# Altium footprint library 247-616_Pi-CAN.PcbLib: 15 footprints
Each footprint in its own frame and in the unit in brackets; x right, y up, seen from the top. Pads: shape width x height; smd on the part's side, far side on the other; paste and mask are expansions set on the pad; w line width, h text height; cw(c..) or ccw(c..) is an arc to the next point about the centre after c.
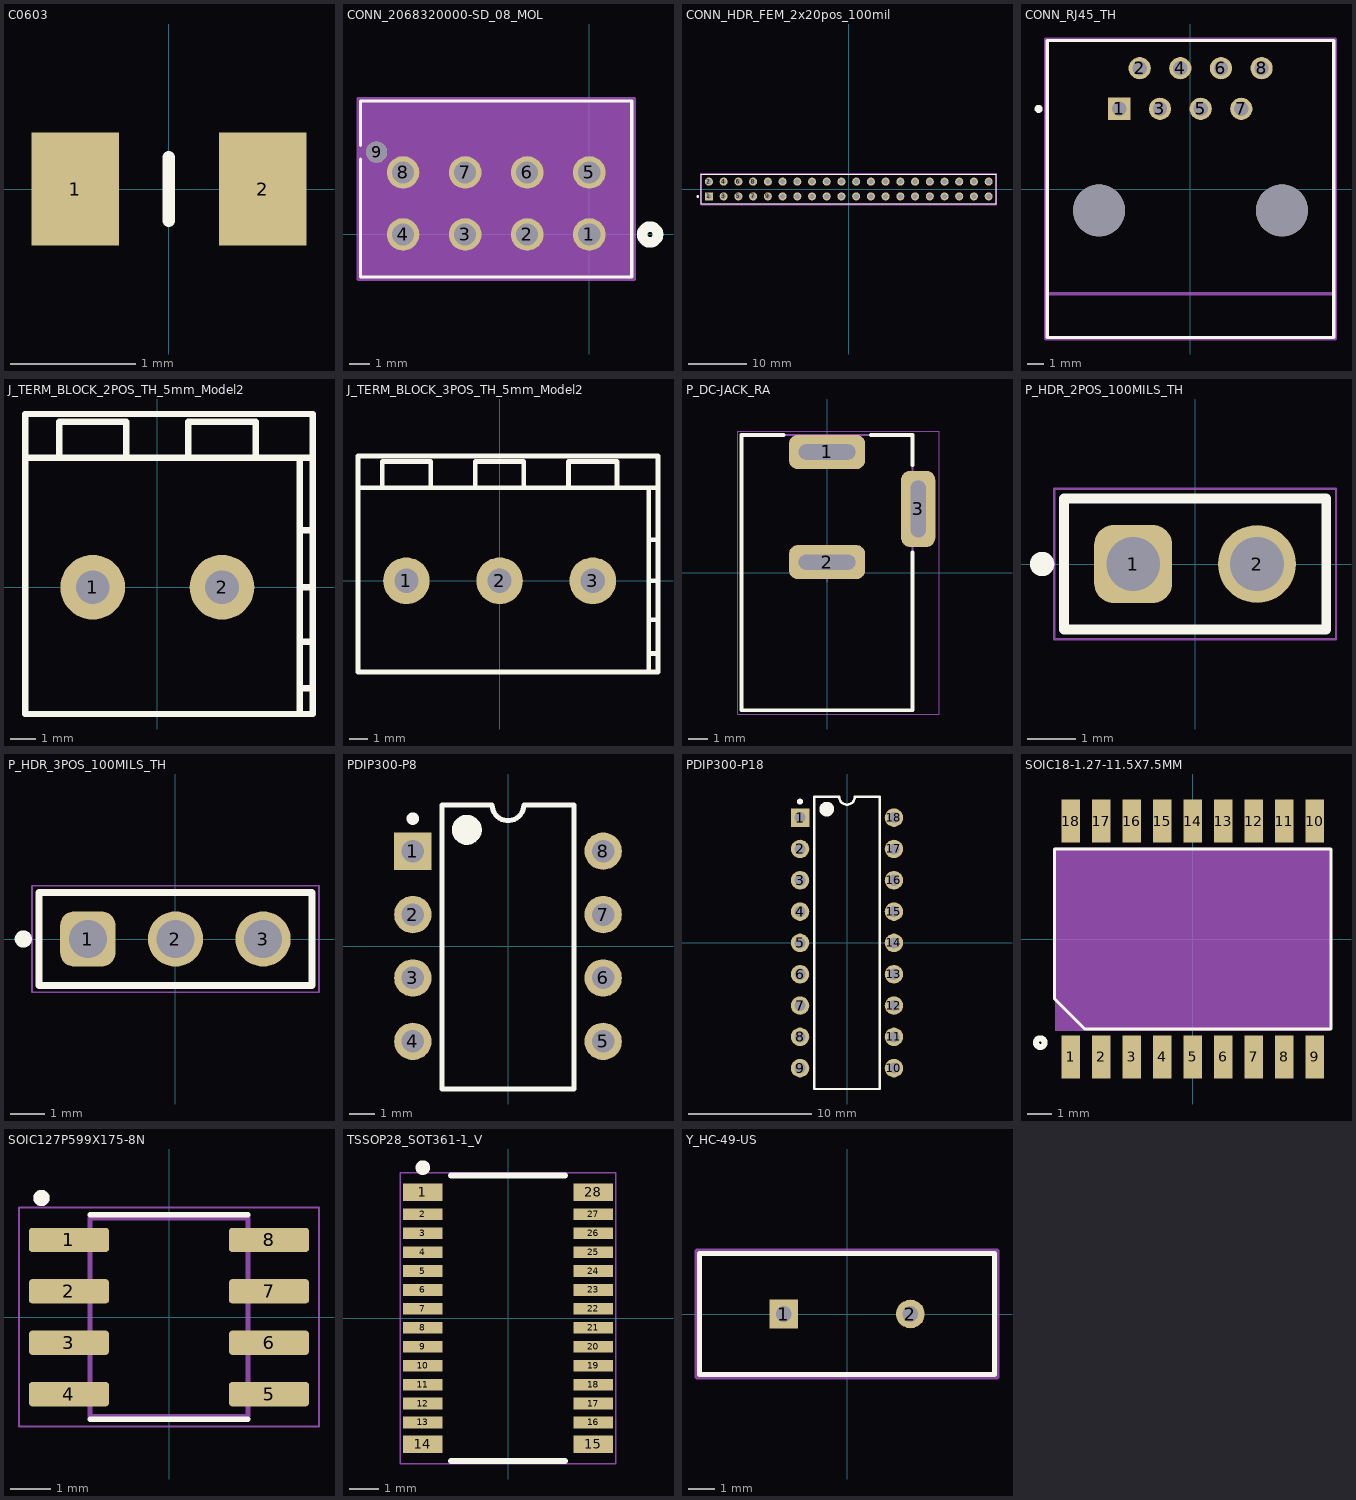
[diagram p0: the footprints below, top view; thin cyan lines are the x and y axes]

## C0603 [mm] "Vérifié par projet tornatech"
height 0.9
pads (2):
  rect 0.7x0.9 smd: 1(-0.75,0) 2(0.75,0)
Top Overlay:
  lines w0.1: 0,-0.254 0,0.254
3D body "CC0603ZRY5V9BB104.STEP": height 0.9, standoff 0, extent -0.8,-0.4 0.8,0.4

## CONN_2068320000-SD_08_MOL [mil]
pads (9):
  round 62 hole 42: 1(0,0) 2(-118.11,0) 3(-236.22,0) 4(-354.33,0) 5(0,118.11) 6(-118.11,118.11) 7(-236.22,118.11) 8(-354.33,118.11)
  round 40 / inner round 60 / far side round 40 hole 40 unplated paste-99999 mask+0: 9(-404.72,156.69)
Top Overlay:
  circle w20: c115.83,0 r15
  lines w6: -435.17,143.69 -435.17,-80.94 80.83,-80.94 80.83,254.06 -435.17,254.06 -435.17,169.69
Bottom Overlay:
  circle w20: c115.83,0 r15
Top 3D Body:
  circle w20: c0,0 r15
  lines w1: -430.17,-75.94 75.83,-75.94 75.83,249.06 -430.17,249.06 -430.17,-75.94
Mechanical 15:
  region: 85.83,259.06 -440.17,259.06 -440.17,-85.94 85.83,-85.94
  lines w6: -440.17,-85.94 -440.17,259.06 85.83,259.06 85.83,-85.94 -440.17,-85.94
3D body "2068320801.stp": height 392.08, standoff -123.28, extent -429.95,-76.04 75.95,249.16

## CONN_HDR_FEM_2x20pos_100mil [mm] "Connector Receptacle 2 rows  TH"
height 7.6
pads (40):
  rect 1.39x1.39 hole 0.89 paste-2539.97 mask+0: 1(-24.13,-1.27)
  round 1.39 hole 0.89 paste-2539.97 mask+0: 2(-24.13,1.27) 3(-21.59,-1.27) 4(-21.59,1.27) 5(-19.05,-1.27) 6(-19.05,1.27) 7(-16.51,-1.27) 8(-16.51,1.27) 9(-13.97,-1.27) 10(-13.97,1.27) 11(-11.43,-1.27) 12(-11.43,1.27) 13(-8.89,-1.27) 14(-8.89,1.27) 15(-6.35,-1.27) 16(-6.35,1.27) 17(-3.81,-1.27) 18(-3.81,1.27) 19(-1.27,-1.27) 20(-1.27,1.27) 21(1.27,-1.27) 22(1.27,1.27) 23(3.81,-1.27) 24(3.81,1.27) 25(6.35,-1.27) 26(6.35,1.27) 27(8.89,-1.27) 28(8.89,1.27) 29(11.43,-1.27) 30(11.43,1.27) 31(13.97,-1.27) 32(13.97,1.27) 33(16.51,-1.27) 34(16.51,1.27) 35(19.05,-1.27) 36(19.05,1.27) 37(21.59,-1.27) 38(21.59,1.27) 39(24.13,-1.27) 40(24.13,1.27)
Top Overlay:
  circle w0.25: c-26.065,-1.27 r0.125
  lines w0.2: -25.465,-2.58 25.465,-2.58 25.465,2.58 -25.465,2.58 -25.465,-2.58
Top Courtyard:
  lines w0.2: -25.565,-2.68 25.565,-2.68 25.565,2.68 -25.565,2.68 -25.565,-2.68
Top Assembly:
  text ".Designator" at 0,0.188 h1
Top 3D Body:
  lines w0.2: -25.465,-2.58 25.465,-2.58 25.465,2.58 -25.465,2.58 -25.465,-2.58
3D body "Conn_TE_Connectivity_7-534206-0_eec.STEP": height 0.25, standoff 0, extent -25.565,-2.68 25.565,2.68

## CONN_RJ45_TH [mm]
pads (10):
  rect 1.39x1.39 hole 0.89 paste-2539.97 mask+0: 1(-4.445,5.01)
  round 1.39 hole 0.89 paste-2539.97 mask+0: 2(-3.175,7.55) 3(-1.905,5.01) 4(-0.635,7.55) 5(0.635,5.01) 6(1.905,7.55) 7(3.175,5.01) 8(4.445,7.55)
  round 3.25 hole 3.25 unplated paste-2539.97 mask+0: ""(-5.715,-1.34) ""(5.715,-1.34)
Top Overlay:
  circle w0.25: c-9.49,5.01 r0.125
  lines w0.2: -8.955,-9.275 8.955,-9.275 8.955,9.275 -8.955,9.275 -8.955,-9.275
Top Courtyard:
  lines w0.2: -9.055,-9.375 9.055,-9.375 9.055,9.375 -9.055,9.375 -9.055,-9.375
Top Assembly:
  lines w0.2: -9.055,-9.375 9.055,-9.375 9.055,9.375 -9.055,9.375 -9.055,-9.375
  text ".Designator" at 0,0.188 h1
Top 3D Body:
  lines w0.2: -9.055,-6.55 9.055,-6.55 ; -8.955,-9.275 8.955,-9.275 8.955,9.275 -8.955,9.275 -8.955,-9.275
3D body "Conn_TE_Connectivity_5555162-1_eec.STEP": height 0.25, standoff 0, extent -9.055,-9.375 9.055,9.375

## J_TERM_BLOCK_2POS_TH_5mm_Model2 [mm] "Terminal Block 2 positions Throught hole"
height 15
pads (2):
  round 2.5 hole 1.3: 1(-2.5,0) 2(2.5,0)
Top Overlay:
  lines w0.25: -5.1,5 5.9,5 ; -3.8,5.1 -3.8,6.4 -1.2,6.4 -1.2,5.1 ; 1.2,5.1 1.2,6.4 3.8,6.4 3.8,5.1 ; 5.5,-4.9 5.5,5 ; 5.5,-3.9 6,-3.9 ; 5.5,-2.1 6,-2.1 ; 5.5,0 6,0 ; 5.5,2.2 6,2.2 ; -5.1,-4.9 -5.1,6.7 6,6.7 6,-4.9 -5.1,-4.9
Top Assembly:
  text ".Designator" at -2.032,1.523 h1
3D body "pxc_1890963_02_MKDSN-2-5-2_3D.stp": height 15.1, standoff -3.4, extent -4.985,-4.7 5.585,4.8

## J_TERM_BLOCK_3POS_TH_5mm_Model2 [mm] "Terminal Block 3 positions Throught hole"
height 15
pads (3):
  round 2.5 hole 1.3: 1(-5,0) 2(0,0) 3(5,0)
Top Overlay:
  lines w0.25: -7.6,5 8.5,5 ; -6.3,5.1 -6.3,6.4 -3.7,6.4 -3.7,5.1 ; -1.3,5.1 -1.3,6.4 1.3,6.4 1.3,5.1 ; 3.7,5.1 3.7,6.4 6.3,6.4 6.3,5.1 ; 8,-4.9 8,5 ; 8,-3.9 8.5,-3.9 ; 8,-2.1 8.5,-2.1 ; 8,0 8.5,0 ; 8,2.2 8.5,2.2 ; -7.6,-4.9 -7.6,6.7 8.5,6.7 8.5,-4.9 -7.6,-4.9
Top Assembly:
  text ".Designator" at -1.905,1.523 h1
3D body "pxc_1890976_02_MKDSN-2-5-3_3D.stp": height 15.1, standoff -3.4, extent -7.485,-4.8 8.085,4.7

## P_DC-JACK_RA [mm] "DC Power Jack Right Angle"
height 10.7
pads (3):
  rrect50% 4x1.8 hole 0.8 slot 3 at 0 deg: 1(0,6.35) 2(0,0.55)
  rrect50% 1.8x4 hole 0.8 slot 3 at 90 deg: 3(4.8,3.35)
Top Overlay:
  lines w0.2: -2.3,7.25 -4.5,7.25 -4.5,-7.25 4.5,-7.25 4.5,1.05 ; 2.3,7.25 4.5,7.25 4.5,5.65
Top Courtyard:
  lines w0.05: -0.5,0 0.5,0 ; 0,-0.5 0,0.5 ; -4.7,-7.45 -4.7,7.45 5.9,7.45 5.9,-7.45 -4.7,-7.45
Top Assembly:
  text ".Designator" at -2.159,2.793 h1
Top 3D Body:
  lines w0.1: -4.5,-7.25 4.5,-7.25 4.5,7.25 -4.5,7.25 -4.5,-7.25
3D body "694106301002.stp": height 10.75, standoff -3.75, extent -4.5,-7.25 5,7.25

## P_HDR_2POS_100MILS_TH [mm] "Pin Header, pitch 2.54 mm, THT, Vertical, single row, 2p"
height 8.54
pads (2):
  rrect50% 1.6x1.6 hole 1.1: 1(-1.27,0)
  round 1.6 hole 1.1: 2(1.27,0)
Top Overlay:
  circle w0.25: c-3.14,0 r0.125
  lines w0.2: -2.69,-1.345 -2.69,1.345 2.69,1.345 2.69,-1.345 -2.69,-1.345
Top Courtyard:
  lines w0.05: -2.89,-1.545 2.89,-1.545 2.89,1.545 -2.89,1.545 -2.89,-1.545
Top Assembly:
  text ".Designator" at -2.272,-0.229 h1
3D body "61300211121.stp": height 8.57, standoff -2.97, extent -2.54,-1.27 2.54,1.27

## P_HDR_3POS_100MILS_TH [mm] "Pin Header, pitch 2.54 mm, THT, Vertical, single row, 3p"
height 8.54
pads (3):
  rrect50% 1.6x1.6 hole 1.1: 1(-2.54,0)
  round 1.6 hole 1.1: 2(0,0) 3(2.54,0)
Top Overlay:
  circle w0.25: c-4.41,0 r0.125
  lines w0.2: -3.96,-1.345 3.96,-1.345 3.96,1.345 -3.96,1.345 -3.96,-1.345
Top Courtyard:
  lines w0.05: -4.16,-1.545 -4.16,1.545 4.16,1.545 4.16,-1.545 -4.16,-1.545
Top Assembly:
  text ".Designator" at -2.159,0.696 h1
3D body "61300311121.stp": height 8.57, standoff -2.97, extent -3.81,-1.27 3.81,1.27

## PDIP300-P8 [mm] "8-Pin Plastic Dual In-Line Package (PDIP)"
height 5.34
pads (8):
  rect 1.5x1.5 hole 0.9: 1(-3.81,3.81)
  round 1.5 hole 0.9: 2(-3.81,1.27) 3(-3.81,-1.27) 4(-3.81,-3.81) 5(3.81,-3.81) 6(3.81,-1.27) 7(3.81,1.27) 8(3.81,3.81)
Top Overlay:
  circle w0.6: c-1.65,4.662 r0.3
  circle w0.25: c-3.81,5.11 r0.125
  lines w0.2: -2.65,-5.715 -2.65,5.662 -0.635,5.662 ccw(c0,5.662) 0.635,5.662 2.65,5.662 2.65,-5.715 -2.65,-5.715
Top Assembly:
  text ".Designator" at -1.27,-0.255 h1
3D body "CircuitWorks-DIP8.STEP": height 4.19, standoff -2.67, extent -3.937,-5.715 3.937,5.715

## PDIP300-P18 [mm] "DIP, 18-Pin, Row Spacing 7.62 mm, Pitch 2.54 mm"
height 5.34
pads (18):
  rect 1.5x1.5 hole 0.9: 1(-3.81,10.16)
  round 1.5 hole 0.9: 2(-3.81,7.62) 3(-3.81,5.08) 4(-3.81,2.54) 5(-3.81,0) 6(-3.81,-2.54) 7(-3.81,-5.08) 8(-3.81,-7.62) 9(-3.81,-10.16) 10(3.81,-10.16) 11(3.81,-7.62) 12(3.81,-5.08) 13(3.81,-2.54) 14(3.81,0) 15(3.81,2.54) 16(3.81,5.08) 17(3.81,7.62) 18(3.81,10.16)
Top Overlay:
  circle w0.6: c-1.65,10.85 r0.3
  circle w0.25: c-3.81,11.46 r0.125
  lines w0.2: -2.65,-11.85 2.65,-11.85 2.65,11.85 0.635,11.85 cw(c0,11.85) -0.635,11.85 -2.65,11.85 -2.65,-11.85
Top Assembly:
  text ".Designator" at -1.016,-0.255 h1
3D body "User Library-DIP-18P-M02.STEP": height 5, standoff -3, extent -4.06,-11 3.81,11

## SOIC18-1.27-11.5X7.5MM [mil]
pads (18):
  rect 30x70 smd: 1(-200,-193.5) 2(-150,-193.5) 3(-100,-193.5) 4(-50,-193.5) 5(0,-193.5) 6(50,-193.5) 7(100,-193.5) 8(150,-193.5) 9(200,-193.5) 10(200,193.5) 11(150,193.5) 12(100,193.5) 13(50,193.5) 14(0,193.5) 15(-50,193.5) 16(-100,193.5) 17(-150,193.5) 18(-200,193.5)
Top Overlay:
  circle w10: c-250,-170 r7.07
  lines w5: -227,-97.5 -177,-147.5 227,-147.5 227,147.5 -227,147.5 -227,-97.5
Mechanical 15:
  region: 225,-150.12 -225.17,-150.12 -225.17,150 225,150
3D body "step_temp.STEP": height 104.33, standoff 0, extent -227.36,-202.76 227.36,202.76

## SOIC127P599X175-8N [mm]
pads (8):
  rrect25% 1.97x0.6 smd: 1(-2.47,1.905) 2(-2.47,0.635) 3(-2.47,-0.635) 4(-2.47,-1.905) 5(2.47,-1.905) 6(2.47,-0.635) 7(2.47,0.635) 8(2.47,1.905)
Top Overlay:
  circle w0.2: c-3.151,2.94 r0.1
  lines w0.127: -1.95,-2.525 1.95,-2.525 ; -1.95,2.525 1.95,2.525
Top 3D Body:
  circle w0.2: c-3.151,2.94 r0.1
  lines w0.127: -1.95,-2.452 1.95,-2.452 1.95,2.452 -1.95,2.452 -1.95,-2.452
Mechanical 15:
  lines w0.05: -3.705,-2.702 3.705,-2.702 3.705,2.702 -3.705,2.702 -3.705,-2.702
3D body "step_temp.STEP": height 1.75, standoff 0, extent -2.995,-2.452 2.995,2.452

## TSSOP28_SOT361-1_V [mm] "SOP, 28-Leads, Body 9.7x4.4mm, Pitch 0.65mm, NXP Recommended"
height 1.1
pads (28):
  rect 1.35x0.6 smd: 1(-2.925,4.325) 14(-2.925,-4.325) 15(2.925,-4.325) 28(2.925,4.325)
  rect 1.35x0.4 smd: 2(-2.925,3.575) 3(-2.925,2.925) 4(-2.925,2.275) 5(-2.925,1.625) 6(-2.925,0.975) 7(-2.925,0.325) 8(-2.925,-0.325) 9(-2.925,-0.975) 10(-2.925,-1.625) 11(-2.925,-2.275) 12(-2.925,-2.925) 13(-2.925,-3.575) 16(2.925,-3.575) 17(2.925,-2.925) 18(2.925,-2.275) 19(2.925,-1.625) 20(2.925,-0.975) 21(2.925,-0.325) 22(2.925,0.325) 23(2.925,0.975) 24(2.925,1.625) 25(2.925,2.275) 26(2.925,2.925) 27(2.925,3.575)
Top Overlay:
  circle w0.25: c-2.925,5.175 r0.125
  lines w0.2: -1.96,-4.9 1.96,-4.9 ; -1.96,4.9 1.96,4.9
Top Courtyard:
  lines w0.05: -3.7,-5 3.7,-5 3.7,5 -3.7,5 -3.7,-5
3D body "TSSOP28__SOT361-1__NXP.step": height 1.09, standoff 0, extent -3.302,-4.902 3.302,4.902

## Y_HC-49-US [mm] "Xtal"
height 7.6
pads (2):
  rect 1.1x1.1 hole 0.6 paste-2539.97 mask+0: 1(-2.44,0)
  round 1.1 hole 0.6 paste-2539.97 mask+0: 2(2.44,0)
Top Overlay:
  lines w0.2: -5.675,-2.325 -5.675,2.325 5.675,2.325 5.675,-2.325 -5.675,-2.325
Top Courtyard:
  lines w0.2: -5.775,-2.425 -5.775,2.425 5.775,2.425 5.775,-2.425 -5.775,-2.425
Top Assembly:
  text ".Designator" at -2.032,0.696 h1
Top 3D Body:
  lines w0.2: -5.675,-2.325 -5.675,2.325 5.675,2.325 5.675,-2.325 -5.675,-2.325
3D body "Crys_ECS_ECS-80-20-4X_eec.STEP": height 0.25, standoff 0, extent -5.775,-2.425 5.775,2.425